# Altium footprint library LED.PCBLIB: 43 footprints (part 3 of 3)
Each footprint in its own frame and in the unit in brackets; x right, y up, seen from the top. Pads: shape width x height; smd on the part's side, far side on the other; paste and mask are expansions set on the pad; w line width, h text height; cw(c..) or ccw(c..) is an arc to the next point about the centre after c.
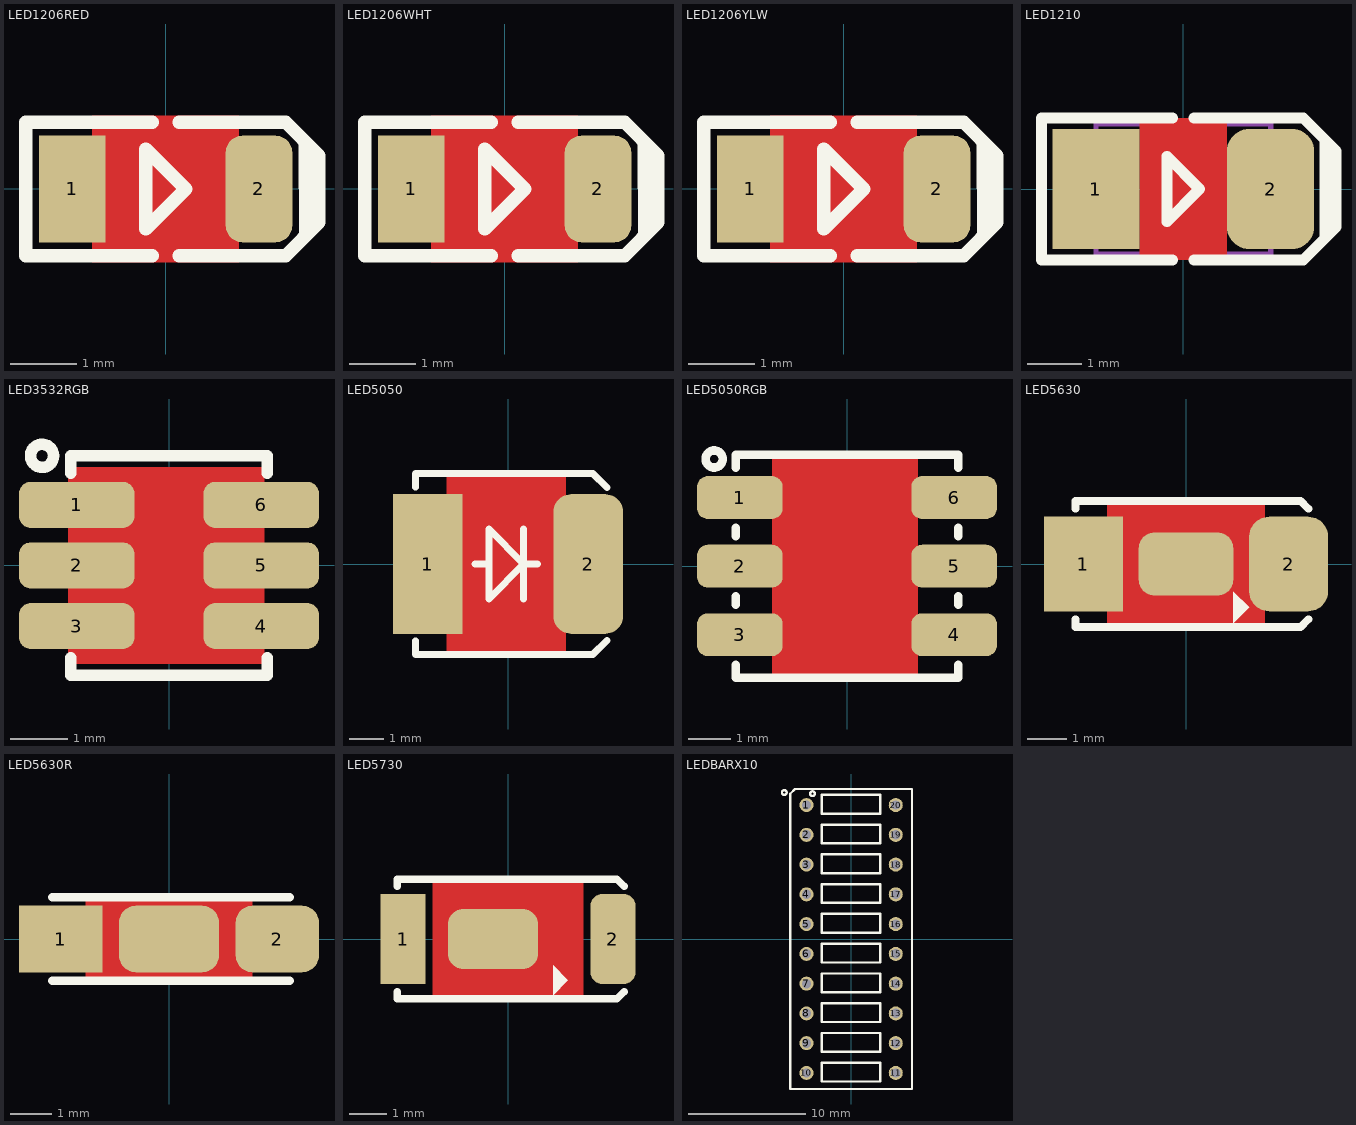
[diagram p2: the footprints below, top view; thin cyan lines are the x and y axes]

## LED1206RED [mm] "LED, 1206, RED"
pads (2):
  rect 1x1.6 smd mask+0.075: 1(-1.4,0)
  rrect50% 1x1.6 smd mask+0.075: 2(1.4,0)
TopLayer:
  pour cut-out: -1.1,1.1 -1.1,-1.1 1.1,-1.1 1.1,1.1
TopOverlay:
  region: 2,0.7 2,-0.7 2.3,-0.4 2.3,0.4
  lines w0.2: -0.2,-1 -2.1,-1 -2.1,1 -0.2,1 ; 0.2,-1 1.8,-1 2.3,-0.5 2.3,0.5 1.8,1 0.2,1 ; -0.3,-0.6 0.3,0 -0.3,0.6 -0.3,-0.6
3D body "User Library-Wurth Elektronik WL-SMCW 1206 (3216) LED Lens (Separate Body).step": height 0.68, standoff 0.28, extent -1,-0.8 1,0.8
3D body "User Library-Wurth Elektronik WL-SMCW 1206 (3216) LED Base (Separate Lens).step": height 0.62, standoff 0, extent -1.6,-0.8 1.6,0.8

## LED1206WHT [mm] "LED, 1206, WHITE"
pads (2):
  rect 1x1.6 smd mask+0.075: 1(-1.4,0)
  rrect50% 1x1.6 smd mask+0.075: 2(1.4,0)
TopLayer:
  pour cut-out: -1.1,1.1 -1.1,-1.1 1.1,-1.1 1.1,1.1
TopOverlay:
  region: 2,0.7 2,-0.7 2.3,-0.4 2.3,0.4
  lines w0.2: -0.2,-1 -2.1,-1 -2.1,1 -0.2,1 ; 0.2,-1 1.8,-1 2.3,-0.5 2.3,0.5 1.8,1 0.2,1 ; -0.3,-0.6 -0.3,0.6 0.3,0 -0.3,-0.6
3D body "User Library-Wurth Elektronik WL-SMCW 1206 (3216) LED Base (Separate Lens).step": height 0.62, standoff 0, extent -1.6,-0.8 1.6,0.8
3D body "User Library-Wurth Elektronik WL-SMCW 1206 (3216) LED Lens (Separate Body).step": height 0.68, standoff 0.28, extent -1,-0.8 1,0.8

## LED1206YLW [mm] "LED, 1206, YELLOW"
pads (2):
  rect 1x1.6 smd mask+0.075: 1(-1.4,0)
  rrect50% 1x1.6 smd mask+0.075: 2(1.4,0)
TopLayer:
  pour cut-out: -1.1,1.1 -1.1,-1.1 1.1,-1.1 1.1,1.1
TopOverlay:
  region: 2,0.7 2,-0.7 2.3,-0.4 2.3,0.4
  lines w0.2: -0.2,-1 -2.1,-1 -2.1,1 -0.2,1 ; 0.2,-1 1.8,-1 2.3,-0.5 2.3,0.5 1.8,1 0.2,1 ; -0.3,-0.6 0.3,0 -0.3,0.6 -0.3,-0.6
3D body "User Library-Wurth Elektronik WL-SMCW 1206 (3216) LED Lens (Separate Body).step": height 0.68, standoff 0.28, extent -1,-0.8 1,0.8
3D body "User Library-Wurth Elektronik WL-SMCW 1206 (3216) LED Base (Separate Lens).step": height 0.62, standoff 0, extent -1.6,-0.8 1.6,0.8

## LED1210 [mm]
pads (2):
  rect 1.6x2.2 smd mask+0.075: 1(-1.6,0)
  rrect50% 1.6x2.2 smd mask+0.075: 2(1.6,0)
TopLayer:
  pour cut-out: -0.8,1.3 -0.8,-1.3 0.8,-1.3 0.8,1.3
TopOverlay:
  region: 2.5,1 2.5,-1 2.8,-0.7 2.8,0.7
  lines w0.2: -0.2,-1.3 -2.6,-1.3 -2.6,1.3 -0.2,1.3 ; 0.2,-1.3 2.2,-1.3 2.8,-0.7 2.8,0.7 2.2,1.3 0.2,1.3 ; -0.3,-0.6 0.3,0 -0.3,0.6 -0.3,-0.6
Mechanical13:
  lines w0.1: -1.6,-1.2 -1.6,1.2 1.6,1.2 1.6,-1.2 -1.6,-1.2
3D body "User Library-led_1210.step": height 1.1, standoff -0.05, extent -1.62,-1.35 1.62,1.35

## LED3532RGB [mm] "LED 3.5mmX3.2mm, LRTB G6SG PLLC6"
height 1.6
pads (6):
  rrect50% 2x0.8 smd mask+0.075: 1(-1.6,1.05) 2(-1.6,0) 3(-1.6,-1.05) 4(1.6,-1.05) 5(1.6,0) 6(1.6,1.05)
TopLayer:
  pour cut-out: -1.75,1.7 1.65,1.7 1.65,-1.7 -1.75,-1.7
TopOverlay:
  circle w0.2: c-2.2,1.9 r0.2
  lines w0.2: -1.7,-1.6 -1.7,-1.9 1.7,-1.9 1.7,-1.6 ; -1.7,1.6 -1.7,1.9 1.7,1.9 1.7,1.6
3D body "User Library-LED_RGB_Osram_LRTB_G6SG.step": height 2.01, standoff 0, extent -1.8,-1.75 1.8,1.75

## LED5050 [mm] "LED 5mmX5mm, PLLC6"
pads (2):
  rect 2x4 smd mask+0.1: 1(-2.3,0)
  rrect50% 2x4 smd mask+0.1: 2(2.3,0)
TopLayer:
  pour cut-out: -1.75,2.54 1.65,2.54 1.65,-2.54 -1.75,-2.54
TopOverlay:
  lines w0.2: -2.65,-2.2 -2.65,-2.6 2.43,-2.6 2.84,-2.19 ; -2.65,2.2 -2.65,2.6 2.43,2.6 2.84,2.19 ; -0.95,0 -0.55,0 ; 0.45,-1 0.45,1 ; 0.85,0 0.45,0 ; 0.45,0 -0.55,-1 -0.55,1 0.45,0
3D body "User Library-smd_led_5050.step": height 1.6, standoff 0, extent -2.65,-2.5 2.65,2.5

## LED5050RGB [mm] "LED 5mmX5mm, PLLC6"
pads (6):
  rrect50% 2x1 smd mask+0.1: 1(-2.5,1.6) 2(-2.5,0) 3(-2.5,-1.6) 4(2.5,-1.6) 5(2.5,0) 6(2.5,1.6)
TopLayer:
  pour cut-out: -1.75,2.54 1.65,2.54 1.65,-2.54 -1.75,-2.54
TopOverlay:
  circle w0.2: c-3.1,2.5 r0.2
  lines w0.2: -2.6,-2.3 -2.6,-2.6 2.6,-2.6 2.6,-2.3 ; -2.6,-0.9 -2.6,-0.7 ; -2.6,0.7 -2.6,0.9 ; -2.6,2.3 -2.6,2.6 2.6,2.6 2.6,2.3 ; 2.6,-0.9 2.6,-0.7 ; 2.6,0.7 2.6,0.9
3D body "User Library-APA102C_RGB.step": height 1.55, standoff 0, extent -2.75,-2.5 2.75,2.5

## LED5630 [mm] "LED 5.6mmX3mm"
pads (3):
  rect 2x2.4 smd mask+0.1: 1(-2.6,0)
  rrect50% 2x2.4 smd mask+0.1: 2(2.6,0)
  rrect50% 2.4x1.6 smd mask+0.075: ""(0,0)
TopLayer:
  pour cut-out: -2,1.6 2,1.6 2,-1.6 -2,-1.6
TopOverlay:
  region: 1.6,-1.1 1.2,-0.7 1.2,-1.5
  lines w0.2: -2.8,-1.4 -2.8,-1.6 2.9,-1.6 3.1,-1.4 ; -2.8,1.4 -2.8,1.6 2.9,1.6 3.1,1.4
3D body "User Library-LED_5630.step": height 0.86, standoff -0.04, extent -2.8,-1.5 2.8,1.5

## LED5630R [mm] "LED 5.6mmX3mm"
pads (3):
  rect 2x1.6 smd mask+0.1: 1(-2.6,0)
  rrect50% 2x1.6 smd mask+0.1: 2(2.6,0)
  rrect50% 2.4x1.6 smd mask+0.075: ""(0,0)
TopLayer:
  pour cut-out: -2,1 2,1 2,-1 -2,-1
TopOverlay:
  lines w0.2: -2.8,-1 2.9,-1 ; -2.8,1 2.9,1
3D body "User Library-LED_5630.step": height 2.94, standoff -0.06, extent -2.8,-0.45 2.8,0.45

## LED5730 [mm] "LED 5.7mmX3mm"
pads (3):
  rect 1.2x2.4 smd mask+0.1: 1(-2.8,0)
  rrect50% 1.2x2.4 smd mask+0.1: 2(2.8,0)
  rrect50% 2.4x1.6 smd mask+0.075: ""(-0.4,0)
TopLayer:
  pour cut-out: -2,1.6 2,1.6 2,-1.6 -2,-1.6
TopOverlay:
  region: 1.6,-1.1 1.2,-0.7 1.2,-1.5
  lines w0.2: -2.95,-1.4 -2.95,-1.6 2.9,-1.6 3.1,-1.4 ; -2.95,1.4 -2.95,1.6 2.9,1.6 3.1,1.4
3D body "User Library-PLCC-2white.step": height 0.9, standoff 0, extent -2.85,-1.5 2.85,1.5

## LEDBARX10 [mm] "LED BAR GRAPH, pitch: 2.54mm,  CLSRD10A SSA-LXB10HW-GF"
pads (20):
  round 1.2 / inner round 1.2 / far side oval 2x1.2 hole 0.8: 1(-3.81,11.43) 2(-3.81,8.89) 3(-3.81,6.35) 4(-3.81,3.81) 5(-3.81,1.27) 6(-3.81,-1.27) 7(-3.81,-3.81) 8(-3.81,-6.35) 9(-3.81,-8.89) 10(-3.81,-11.43) 11(3.81,-11.43) 12(3.81,-8.89) 13(3.81,-6.35) 14(3.81,-3.81) 15(3.81,-1.27) 16(3.81,1.27) 17(3.81,3.81) 18(3.81,6.35) 19(3.81,8.89) 20(3.81,11.43)
TopOverlay:
  circle w0.2: c-5.7,12.5 r0.2
  circle w0.2: c-3.3,12.4 r0.2
  lines w0.2: -5.2,-12.8 -5.2,12.4 -4.8,12.8 5.2,12.8 5.2,-12.8 -5.2,-12.8 ; -2.5,-12.16 2.5,-12.16 2.5,-10.56 -2.5,-10.56 -2.5,-12.16 ; -2.5,-9.62 2.5,-9.62 2.5,-8.02 -2.5,-8.02 -2.5,-9.62 ; -2.5,-7.08 2.5,-7.08 2.5,-5.48 -2.5,-5.48 -2.5,-7.08 ; -2.5,-4.54 2.5,-4.54 2.5,-2.94 -2.5,-2.94 -2.5,-4.54 ; -2.5,-2 2.5,-2 2.5,-0.4 -2.5,-0.4 -2.5,-2 ; -2.5,0.54 2.5,0.54 2.5,2.14 -2.5,2.14 -2.5,0.54 ; -2.5,3.08 2.5,3.08 2.5,4.68 -2.5,4.68 -2.5,3.08 ; -2.5,5.62 2.5,5.62 2.5,7.22 -2.5,7.22 -2.5,5.62 ; -2.5,8.16 2.5,8.16 2.5,9.76 -2.5,9.76 -2.5,8.16 ; -2.5,10.7 -2.5,12.3 2.5,12.3 2.5,10.7 -2.5,10.7
3D body "User Library-LED_BAR_10.step": height 6.8, standoff -7, extent -5.08,-12.7 5.08,12.7